# Altium footprint library QFN50P300X300X100-17N.PcbLib: 1 footprints
Each footprint in its own frame and in the unit in brackets; x right, y up, seen from the top. Pads: shape width x height; smd on the part's side, far side on the other; paste and mask are expansions set on the pad; w line width, h text height; cw(c..) or ccw(c..) is an arc to the next point about the centre after c.
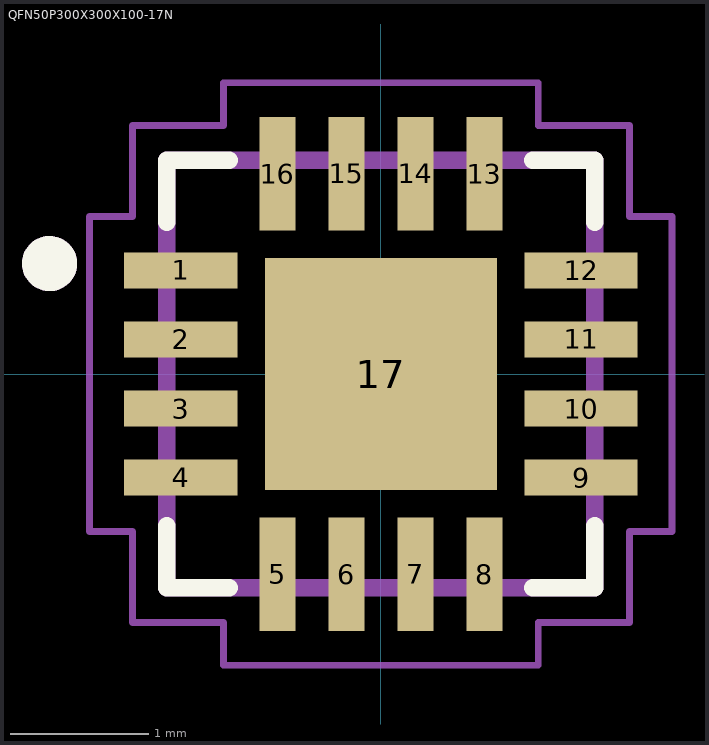
[diagram p0: the footprint, top view; thin cyan lines are the x and y axes]

## QFN50P300X300X100-17N [mm]
pads (17):
  rect 0.82x0.26 smd: 1(-1.45,0.75) 2(-1.45,0.25) 3(-1.45,-0.25) 4(-1.45,-0.75) 9(1.45,-0.75) 10(1.45,-0.25) 11(1.45,0.25) 12(1.45,0.75)
  rect 0.26x0.82 smd: 5(-0.75,-1.45) 6(-0.25,-1.45) 7(0.25,-1.45) 8(0.75,-1.45) 13(0.75,1.45) 14(0.25,1.45) 15(-0.25,1.45) 16(-0.75,1.45)
  rect 1.68x1.68 smd: 17(0,0)
Top Overlay:
  circle w0.2: c-2.4,0.8 r0.1
  lines w0.127: -1.55,-1.1 -1.55,-1.55 -1.1,-1.55 ; -1.55,1.1 -1.55,1.55 -1.1,1.55 ; 1.1,-1.55 1.55,-1.55 1.55,-1.1 ; 1.1,1.55 1.55,1.55 1.55,1.1
Top Paste:
  region: 0.08,-0.08 0.67,-0.08 0.67,-0.67 0.08,-0.67
  region: -0.67,-0.08 -0.08,-0.08 -0.08,-0.67 -0.67,-0.67
  region: 0.08,0.67 0.67,0.67 0.67,0.08 0.08,0.08
  region: -0.67,0.67 -0.08,0.67 -0.08,0.08 -0.67,0.08
Mechanical 1:
  circle w0.2: c-2.4,0.8 r0.1
  lines w0.127: -1.55,-1.55 1.55,-1.55 1.55,1.55 -1.55,1.55 -1.55,-1.55
Mechanical 4:
  lines w0.05: -2.11,-1.14 -2.11,1.14 -1.8,1.14 -1.8,1.8 -1.14,1.8 -1.14,2.11 1.14,2.11 1.14,1.8 1.8,1.8 1.8,1.14 2.11,1.14 2.11,-1.14 1.8,-1.14 1.8,-1.8 1.14,-1.8 1.14,-2.11 -1.14,-2.11 -1.14,-1.8 -1.8,-1.8 -1.8,-1.14 -2.11,-1.14